# Altium footprint library MFRHS10000.PcbLib: 1 footprints
Each footprint in its own frame and in the unit in brackets; x right, y up, seen from the top. Pads: shape width x height; smd on the part's side, far side on the other; paste and mask are expansions set on the pad; w line width, h text height; cw(c..) or ccw(c..) is an arc to the next point about the centre after c.
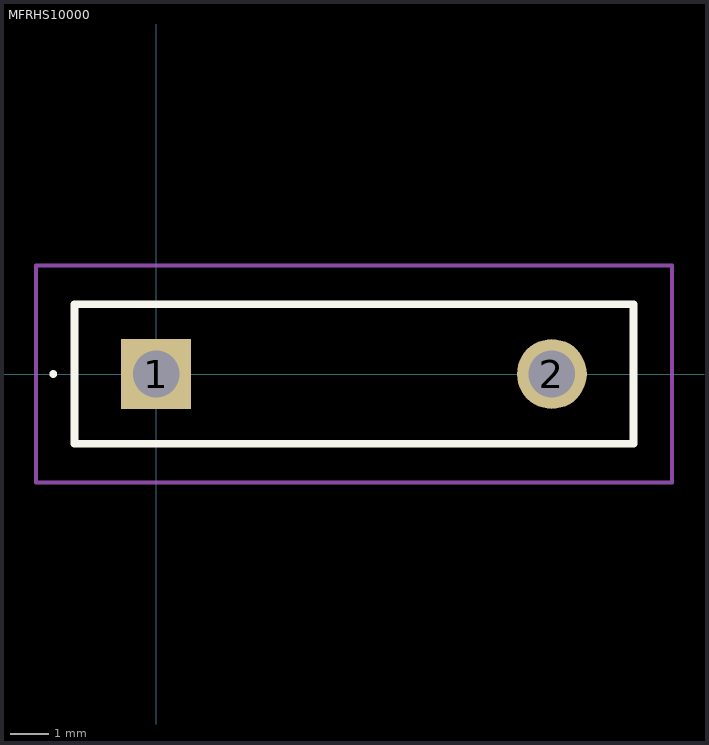
[diagram p0: the footprint, top view; thin cyan lines are the x and y axes]

## MFRHS10000 [mm]
pads (2):
  rect 1.8x1.8 hole 1.2: 1(0,0)
  round 1.8 hole 1.2: 2(10.2,0)
Top Overlay:
  lines w0.1: -2.7,0 -2.7,0 ; -2.7,0 ccw(c-2.65,0) -2.6,0 ; -2.7,0 cw(c-2.65,0) -2.6,0 ; -2.6,0 -2.6,0
  lines w0.2: -2.1,-1.8 12.3,-1.8 12.3,1.8 -2.1,1.8 -2.1,-1.8
Mechanical 15:
  lines w0.1: -2.1,-1.8 12.3,-1.8 12.3,1.8 -2.1,1.8 -2.1,-1.8
Mechanical 20:
  lines w0.1: -3.1,-2.8 13.3,-2.8 13.3,2.8 -3.1,2.8 -3.1,-2.8